# Altium footprint library ecoVENTPS.PcbLib: 9 footprints
Each footprint in its own frame and in the unit in brackets; x right, y up, seen from the top. Pads: shape width x height; smd on the part's side, far side on the other; paste and mask are expansions set on the pad; w line width, h text height; cw(c..) or ccw(c..) is an arc to the next point about the centre after c.
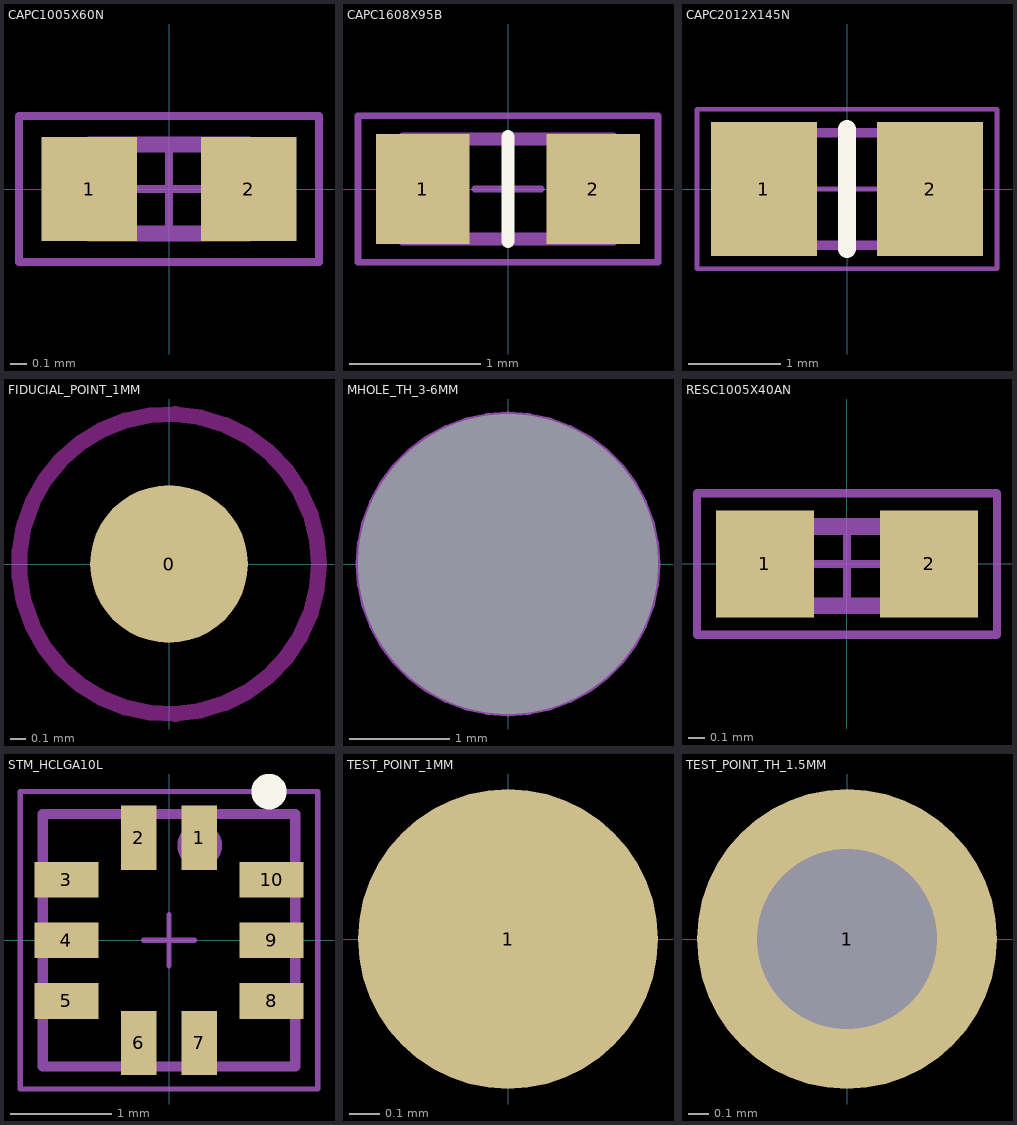
[diagram p0: the footprints below, top view; thin cyan lines are the x and y axes]

## CAPC1005X60N [mm]
pads (2):
  rect 0.6x0.65 smd mask+0.051: 1(-0.5,0) 2(0.5,0)
Mechanical 1:
  lines w0.102: -0.5,-0.279 0.5,-0.279 0.5,0.279 -0.5,0.279 -0.5,-0.279
  text ".Designator" at -0.406,-0.178 h0.25
Mechanical 15:
  lines w0.05: -0.25,0 0.25,0 ; 0,-0.25 0,0.25 ; -0.94,-0.457 0.94,-0.457 0.94,0.457 -0.94,0.457 -0.94,-0.457
3D body: height 0.19, standoff -0.01, extent -0.5,-0.3 0.5,0.3

## CAPC1608X95B [mil]
height 31.5
pads (2):
  rect 28x33 smd: 1(-25.59,0) 2(25.59,0)
Top Overlay:
  lines w4: 0,-15.75 0,15.75
Mechanical 1:
  lines w4: -31.49,-15 -31.49,15 31.5,15 31.5,-15 -31.49,-15
  text ".Designator" at -25,-10 h20
Mechanical 15:
  lines w2: -10,0 10,0 ; 0,-10 0,10 ; -45,-22 -45,22 45,22 45,-22 -45,-22
3D body: height 11.87, standoff -0.02, extent -31.49,-15.74 31.5,15.75

## CAPC2012X145N [mm]
pads (2):
  rect 1.15x1.45 smd: 1(-0.9,0) 2(0.9,0)
Top Overlay:
  lines w0.2: 0,-0.65 0,0.65
Mechanical 1:
  lines w0.102: -1,-0.61 -1,0.61 1,0.61 1,-0.61 -1,-0.61
  text ".Designator" at -0.889,-0.356 h0.51
Mechanical 15:
  lines w0.051: -0.5,0 0.5,0 ; 0,-0.5 0,0.5 ; -1.626,-0.864 -1.626,0.864 1.626,0.864 1.626,-0.864 -1.626,-0.864
3D body: height 0.78, standoff 0, extent -1,-0.625 1,0.625

## FIDUCIAL_POINT_1MM [mm]
pads (1):
  round 1 smd paste-0.5 mask+0.5: 0(0,0)
Top Layer keep-out:
  circle w0.1: c0,0 r0.951

## MHOLE_TH_3-6MM [mm]
pads (1):
  round 0 hole 3 unplated mask+0.051: ""(0,0)
Mechanical 1:
  circle w0.102: c0,0 r1.473
  text ".Designator" at -0.533,-0.254 h0.51

## RESC1005X40AN [mm]
pads (2):
  rect 0.6x0.65 smd: 1(-0.5,0) 2(0.5,0)
Mechanical 1:
  lines w0.102: -0.483,-0.254 0.5,-0.254 0.5,0.229 -0.483,0.229 -0.483,-0.254
  text ".Designator" at -0.381,-0.152 h0.25
Mechanical 15:
  lines w0.051: -0.25,0 0.25,0 ; 0,-0.25 0,0.25 ; -0.914,-0.432 0.914,-0.432 0.914,0.432 -0.914,0.432 -0.914,-0.432
3D body: height 0.35, standoff 0, extent -0.5,-0.25 0.5,0.25

## STM_HCLGA10L [mil]
height 39.37
pads (10):
  rect 14x25 smd: 1(11.81,40) 2(-11.81,40) 6(-11.81,-40) 7(11.81,-40)
  rect 25x14 smd: 3(-40,23.62) 4(-40,0) 5(-40,-23.62) 8(40,-23.62) 9(40,0) 10(40,23.62)
Top Overlay:
  circle w11.81: c39,58 r1
Mechanical 1:
  circle w11.81: c12,37 r2.78
  lines w4: -49.21,-49.21 49.21,-49.21 49.21,49.21 -49.21,49.21 -49.21,-49.21
  text ".Designator" at -12.8,-7.87 h20
Mechanical 15:
  lines w2: -10,0 10,0 ; 0,-10 0,10 ; -58,-58 -58,58 58,58 58,-58 -58,-58
3D body: height 42.91, standoff 0, extent -49.21,-49.21 49.21,49.21

## TEST_POINT_1MM [mm]
pads (1):
  round 1 smd paste-1: 1(0,0)
3D body: height 0.1, standoff 0, extent -0.496,-0.499 0.5,0.499

## TEST_POINT_TH_1.5MM [mm]
pads (1):
  round 1.5 hole 0.9 mask+0.051: 1(0,0)